# Altium footprint library PCBLibrary_Connector.PcbLib: 11 footprints
Each footprint in its own frame and in the unit in brackets; x right, y up, seen from the top. Pads: shape width x height; smd on the part's side, far side on the other; paste and mask are expansions set on the pad; w line width, h text height; cw(c..) or ccw(c..) is an arc to the next point about the centre after c.
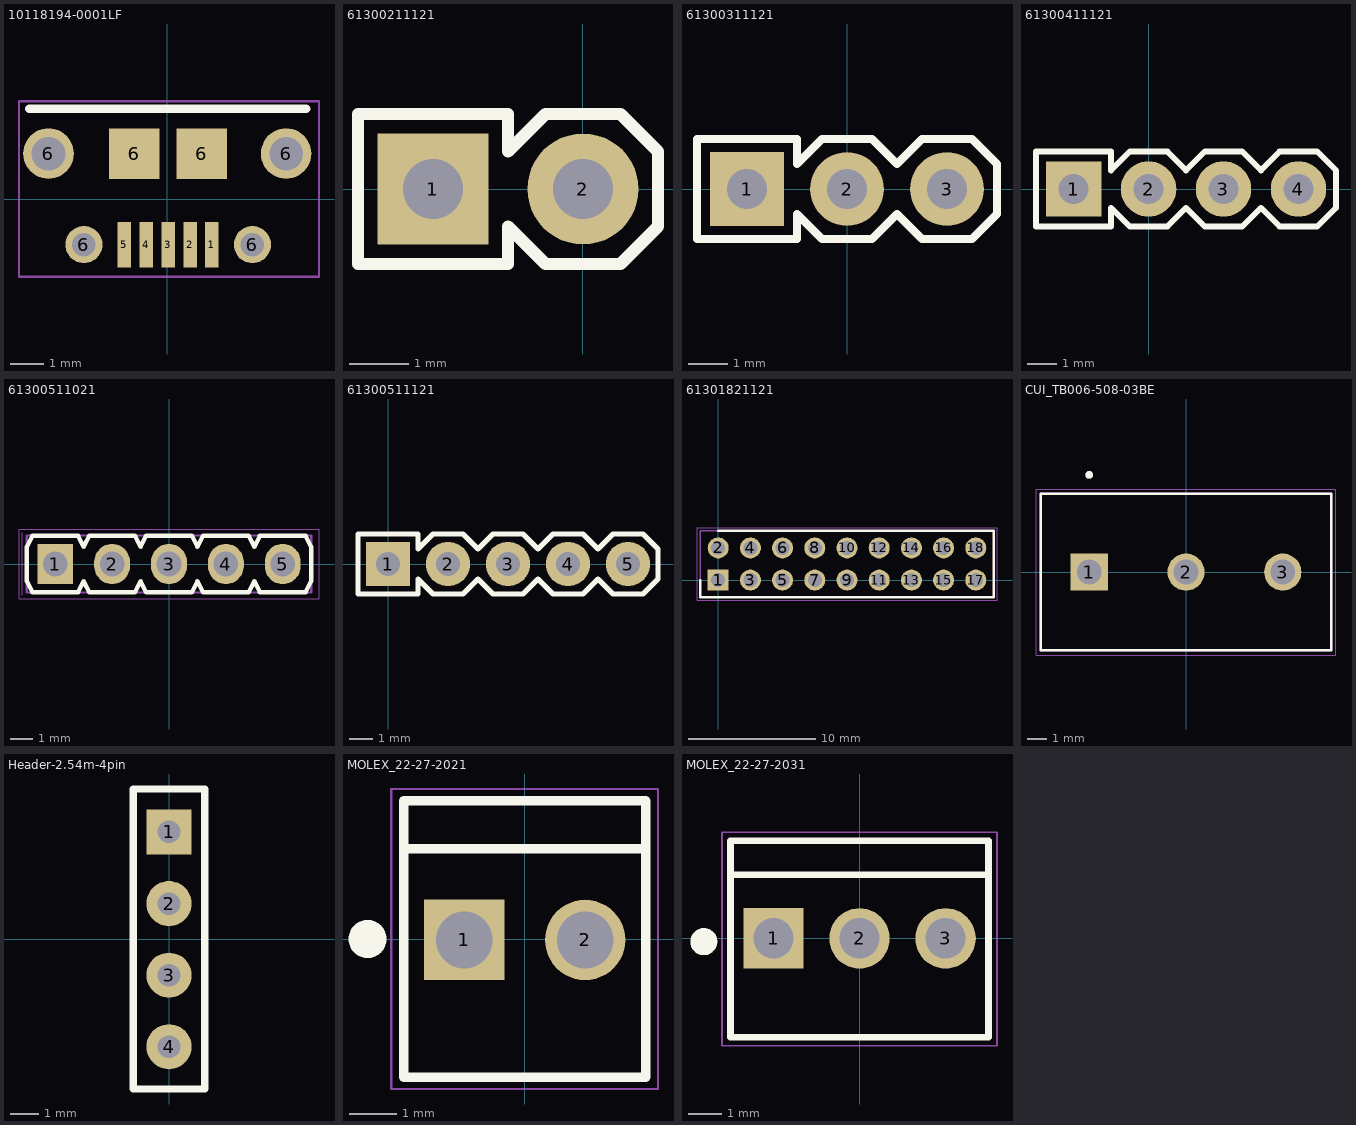
[diagram p0: the footprints below, top view; thin cyan lines are the x and y axes]

## 10118194-0001LF [mm] "CONN USB MICRO B RECPT SMT R/A"
pads (11):
  rect 0.4x1.35 smd: 1(1.325,-1.35) 2(0.675,-1.35) 3(0.025,-1.35) 4(-0.625,-1.35) 5(-1.275,-1.35)
  round 1.5 hole 1: 6(-3.525,1.35) 6(3.525,1.35)
  round 1.1 hole 0.7: 6(-2.475,-1.35) 6(2.525,-1.35)
  rect 1.5x1.5 smd: 6(-0.975,1.35) 6(1.025,1.35)
Top Overlay:
  lines w0.25: -4.1,2.675 4.125,2.675
Mechanical 15:
  lines w0.07: -4.4,-2.3 4.5,-2.3 4.5,2.9 -4.4,2.9 -4.4,-2.3
3D body "MICRO_USB_5PIN_0921_ASM.STEP": height 2.73, standoff -0.55, extent -4,-1.553 4.05,4.027

## 61300211121 [mil]
pads (2):
  rect 74x74 hole 40: 1(-100,0)
  round 74 hole 40: 2(0,0)
Top Overlay:
  lines w8: -150,-50 -150,50 -50,50 -50,25 -25,50 25,50 50,25 50,-25 25,-50 -25,-50 -50,-25 -50,-50 -150,-50
Mechanical 13:
  region: 10,-10 -10,-10 -10,10 10,10
  region: -90,-10 -110,-10 -110,10 -90,10
3D body "61300211121.stp": height 286.22, standoff -168.11, extent -149.99,-49.99 50.01,50.01

## 61300311121 [mil]
pads (3):
  rect 74x74 hole 40: 1(-100,0)
  round 74 hole 40: 2(0,0) 3(100,0)
Top Overlay:
  lines w8: -150,-50 -150,50 -50,50 -50,25 -25,50 25,50 50,25 75,50 125,50 150,25 150,-25 125,-50 75,-50 50,-25 25,-50 -25,-50 -50,-25 -50,-50 -150,-50
Mechanical 13:
  region: 110,-10 90,-10 90,10 110,10
  region: 10,-10 -10,-10 -10,10 10,10
  region: -90,-10 -110,-10 -110,10 -90,10
3D body "61300311121.stp": height 341.34, standoff -112.99, extent -150,-49.99 150,50.01

## 61300411121 [mil]
pads (4):
  rect 74x74 hole 40: 1(-100,0)
  round 74 hole 40: 2(0,0) 3(100,0) 4(200,0)
Top Overlay:
  lines w8: -150,-50 -50,-50 -50,-25 -25,-50 25,-50 50,-25 75,-50 125,-50 150,-25 175,-50 225,-50 250,-25 250,25 225,50 175,50 150,25 125,50 75,50 50,25 25,50 -25,50 -50,25 -50,50 -150,50 -150,-50
Mechanical 13:
  region: -90,-10 -110,-10 -110,10 -90,10
  region: 10,-10 -10,-10 -10,10 10,10
  region: 110,-10 90,-10 90,10 110,10
  region: 210,-10 190,-10 190,10 210,10
3D body "61300411121.stp": height 341.34, standoff -112.99, extent -149.99,-49.99 250.01,50.01

## 61300511021 [mm] "Pin Header, pitch 2.54 mm, THT, Vertical, single row, 5p"
height 8.54
pads (5):
  rect 1.6x1.8 hole 1.1: 1(-5.08,0)
  oval 1.6x1.8 hole 1.1: 2(-2.54,0) 3(0,0) 4(2.54,0) 5(5.08,0)
Top Overlay:
  lines w0.2: -6.35,-0.77 -6.35,0.77 -6.1,1.27 -4.06,1.27 -3.81,0.77 -3.56,1.27 -1.52,1.27 -1.27,0.77 -1.02,1.27 1.02,1.27 1.27,0.77 1.52,1.27 3.56,1.27 3.81,0.77 4.06,1.27 6.1,1.27 6.35,0.77 6.35,-0.77 6.1,-1.27 4.06,-1.27 3.81,-0.77 3.56,-1.27 1.52,-1.27 1.27,-0.77 1.02,-1.27 -1.02,-1.27 -1.27,-0.77 -1.52,-1.27 -3.56,-1.27 -3.81,-0.77 -4.06,-1.27 -6.1,-1.27 -6.35,-0.77
Mechanical 13:
  lines w0.1: 6.1,-1.27 4.06,-1.27 3.81,-0.77 3.56,-1.27 1.52,-1.27 1.27,-0.77 1.02,-1.27 -1.02,-1.27 -1.27,-0.77 -1.52,-1.27 -3.56,-1.27 -3.81,-0.77 -4.06,-1.27 -6.1,-1.27 -6.35,-0.77 -6.35,0.77 -6.1,1.27 -4.06,1.27 -3.81,0.77 -3.56,1.27 -1.52,1.27 -1.27,0.77 -1.02,1.27 1.02,1.27 1.27,0.77 1.52,1.27 3.56,1.27 3.81,0.77 4.06,1.27 6.1,1.27 ; -6.35,-1.27 6.35,-1.27 6.35,1.27 -6.35,1.27 -6.35,-1.27
Mechanical 14:
  text ".Designator" at -0.309,-0.098 h0.75
Mechanical 15:
  lines w0.05: -6.55,-1.4 -6.55,1.4 ; -0.5,0 0.5,0 ; 0,-0.5 0,0.5 ; -6.7,-1.545 6.7,-1.545 6.7,1.545 -6.7,1.545 -6.7,-1.545
3D body "61300511021 (rev1).stp": height 2.55, standoff -2.99, extent -6.35,-0.423 6.35,9.937

## 61300511121 [mil]
pads (5):
  rect 74x74 hole 40: 1(0,0)
  round 74 hole 40: 2(100,0) 3(200,0) 4(300,0) 5(400,0)
Top Overlay:
  lines w8: -50,-50 50,-50 50,-25 75,-50 125,-50 150,-25 175,-50 225,-50 250,-25 275,-50 325,-50 350,-25 375,-50 425,-50 450,-25 450,25 425,50 375,50 350,25 325,50 275,50 250,25 225,50 175,50 150,25 125,50 75,50 50,25 50,50 -50,50 -50,-50
3D body "61300511121.stp": height 341.34, standoff -112.99, extent -49.99,-49.99 450.01,50.01

## 61301821121 [mm]
pads (18):
  rect 1.65x1.65 / inner round 1.65 / far side rect 1.65x1.65 hole 1.1: 1(0,0)
  round 1.65 hole 1.1: 2(0,2.54) 3(2.54,0) 4(2.54,2.54) 5(5.08,0) 6(5.08,2.54) 7(7.62,0) 8(7.62,2.54) 9(10.16,0) 10(10.16,2.54) 11(12.7,0) 12(12.7,2.54) 13(15.24,0) 14(15.24,2.54) 15(17.78,0) 16(17.78,2.54) 17(20.32,0) 18(20.32,2.54)
Top Overlay:
  lines w0.2: -1.42,0 -1.42,-1.345 21.74,-1.345 21.74,3.885 0,3.885
Mechanical 15:
  lines w0.1: -1.42,-1.345 21.74,-1.345 21.74,3.885 -1.42,3.885 -1.42,-1.345
Mechanical 16:
  lines w0.05: -1.67,-1.595 21.99,-1.595 21.99,4.135 -1.67,4.135 -1.67,-1.595
3D body "61301821121.stp": height 8.69, standoff -3.2, extent -1.27,-1.27 21.59,3.81

## CUI_TB006-508-03BE [mm]
pads (3):
  rect 1.95x1.95 / inner round 1.95 / far side rect 1.95x1.95 hole 1.3: 1(-5.08,0)
  round 1.95 hole 1.3: 2(0,0) 3(5.08,0)
Top Overlay:
  circle w0.2: c-5.08,5.1 r0.1
  lines w0.127: -7.62,-4.1 -7.62,4.1 7.62,4.1 7.62,-4.1 -7.62,-4.1
Mechanical 13:
  circle w0.2: c-5.08,5.1 r0.1
  lines w0.127: -7.62,-4.1 -7.62,4.1 7.62,4.1 7.62,-4.1 -7.62,-4.1
Mechanical 15:
  lines w0.05: -7.87,-4.35 7.87,-4.35 7.87,4.35 -7.87,4.35 -7.87,-4.35
3D body "step_temp.STEP": height 10, standoff -3.8, extent -8.12,-4.1 7.62,4.1

## Header-2.54m-4pin [mm]
pads (4):
  rect 1.6x1.6 hole 0.8: 1(0,3.81)
  round 1.6 hole 0.8: 2(0,1.27) 3(0,-1.27) 4(0,-3.81)
Top Overlay:
  lines w0.254: -1.27,-5.31 1.27,-5.31 1.27,5.334 -1.27,5.334 -1.27,-5.31

## MOLEX_22-27-2021 [mm]
height 13.5
pads (2):
  rect 1.69x1.69 / inner round 1.69 / far side rect 1.69x1.69 hole 1.19: 1(-1.27,-0.02)
  round 1.69 hole 1.19: 2(1.27,-0.02)
Top Overlay:
  circle w0.4: c-3.302,0 r0.2
  lines w0.2: -2.54,1.9 2.54,1.9 ; -2.54,-2.9 -2.54,-1.9 -2.54,2.9 2.54,2.9 2.54,-1.9 2.54,-2.9 -2.54,-2.9
Mechanical 15:
  lines w0.05: -2.8,-3.15 2.8,-3.15 2.8,3.15 -2.8,3.15 -2.8,-3.15
3D body "22-27-2021.stp": height 12.12, standoff -3.14, extent -2.54,-2.92 2.54,2.88

## MOLEX_22-27-2031 [mm]
height 13.5
pads (3):
  rect 1.785x1.785 hole 1.19: 1(-2.54,0)
  round 1.785 hole 1.19: 2(0,0) 3(2.54,0)
Top Overlay:
  circle w0.4: c-4.6,-0.1 r0.2
  lines w0.2: -3.81,1.88 3.81,1.88 ; -3.81,-2.92 3.81,-2.92 3.81,2.88 -3.81,2.88 -3.81,-2.92
Mechanical 15:
  lines w0.05: -4.06,-3.17 -4.06,3.13 4.06,3.13 4.06,-3.17 -4.06,-3.17
3D body "22-27-2031.stp": height 12.12, standoff -3.14, extent -3.81,-2.921 3.81,2.879